# Altium footprint library DIODE(Schott, 30V, 200mA, SOT23-3).PcbLib: 1 footprints
Each footprint in its own frame and in the unit in brackets; x right, y up, seen from the top. Pads: shape width x height; smd on the part's side, far side on the other; paste and mask are expansions set on the pad; w line width, h text height; cw(c..) or ccw(c..) is an arc to the next point about the centre after c.
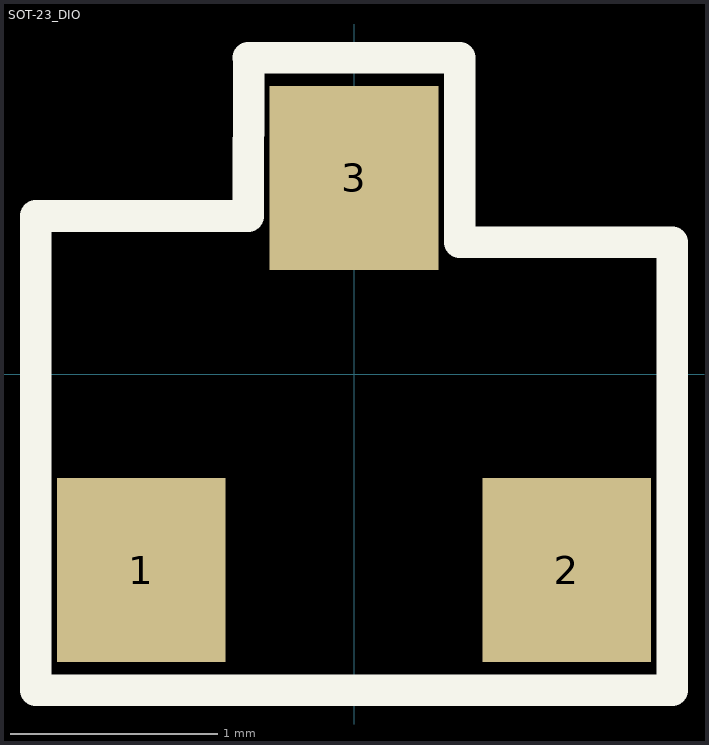
[diagram p0: the footprint, top view; thin cyan lines are the x and y axes]

## SOT-23_DIO [mil]
pads (3):
  rect 32x35 smd paste+0 mask+0: 1(-40.35,-37.2) 2(40.35,-37.2) 3(0,37.2)
Top Overlay:
  lines w6: -60.39,-60 -60.39,-37.56 -60.39,30 -20.05,30 -20,60 ; -60,-60 60,-60 ; -20.04,60 20.04,60 20.04,25 60.39,25 60.39,-37.56 60.39,-60
3D body "SOT-23-3.STEP": height 44.09, standoff 0, extent -57.48,-46.65 57.48,46.65